# Altium schematic symbol library XP_1P.Schlib: 1 symbol
Pins are listed as number, name and electrical type; pins without a type are passive.

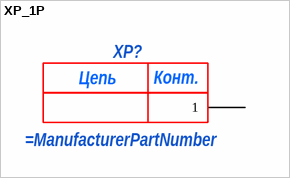
[diagram p0: symbol XP_1P]

## XP_1P
designator XP?
pins: 1
text: Цепь; Конт.